# EAGLE library part FH35C-41S-0.3SHW(50)_BAREBONE (library FH35C_connector)
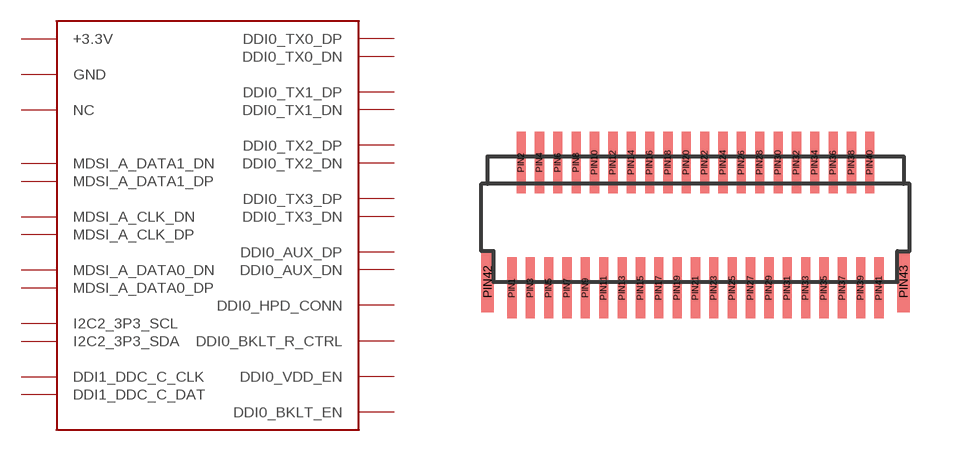
[diagram p0: symbol with the pads of FH35C-41S-0.3SHW(50)_BAREBONE; footprint FH35C-41S-0.3SHW(50)_BAREBONE]

Designator prefix -

## FH35C-41S-0.3SHW(50)_BAREBONE  [FH35C-41S-0.3SHW(50)_BAREBONE]
PIN1  MDSI_A_DATA1_DN
PIN2  MDSI_A_DATA1_DP
PIN3  GND
PIN4  MDSI_A_CLK_DN
PIN5  MDSI_A_CLK_DP
PIN6  GND
PIN7  MDSI_A_DATA0_DN
PIN8  MDSI_A_DATA0_DP
PIN9  GND
PIN10  I2C2_3P3_SCL
PIN11  I2C2_3P3_SDA
PIN12  GND
PIN13  DDI1_DDC_C_CLK
PIN14  DDI1_DDC_C_DAT
PIN15  GND
PIN16  DDI0_TX0_DP
PIN17  DDI0_TX0_DN
PIN18  GND
PIN19  DDI0_TX1_DP
PIN20  DDI0_TX1_DN
PIN21  GND
PIN22  DDI0_TX2_DP
PIN23  DDI0_TX2_DN
PIN24  GND
PIN25  DDI0_TX3_DP
PIN26  DDI0_TX3_DN
PIN27  GND
PIN28  DDI0_AUX_DP
PIN29  DDI0_AUX_DN
PIN30  GND
PIN31  DDI0_HPD_CONN
PIN32  DDI0_BKLT_R_CTRL
PIN33  DDI0_VDD_EN
PIN34  DDI0_BKLT_EN
PIN35  NC
PIN36  NC
PIN37  +3.3V
PIN38  +3.3V
PIN39  +3.3V
PIN40  +3.3V
PIN41  +3.3V
PIN42  GND
PIN43  GND

## Footprint FH35C-41S-0.3SHW(50)_BAREBONE (pad centres in mm)
smd 0.3 x 2: PIN1 -6,-1.6; PIN2 -5.7,2.5; PIN3 -5.4,-1.6; PIN4 -5.1,2.5; PIN5 -4.8,-1.6; PIN6 -4.5,2.5; PIN7 -4.2,-1.6; PIN8 -3.9,2.5; PIN9 -3.6,-1.6; PIN10 -3.3,2.5; PIN11 -3,-1.6; PIN12 -2.7,2.5; PIN13 -2.4,-1.6; PIN14 -2.1,2.5; PIN15 -1.8,-1.6; PIN16 -1.5,2.5; PIN17 -1.2,-1.6; PIN18 -0.9,2.5; PIN19 -0.6,-1.6; PIN20 -0.3,2.5; PIN21 0,-1.6; PIN22 0.3,2.5; PIN23 0.6,-1.6; PIN24 0.9,2.5; PIN25 1.2,-1.6; PIN26 1.5,2.5; PIN27 1.8,-1.6; PIN28 2.1,2.5; PIN29 2.4,-1.6; PIN30 2.7,2.5; PIN31 3,-1.6; PIN32 3.3,2.5; PIN33 3.6,-1.6; PIN34 3.9,2.5; PIN35 4.2,-1.6; PIN36 4.5,2.5; PIN37 4.8,-1.6; PIN38 5.1,2.5; PIN39 5.4,-1.6; PIN40 5.7,2.5; PIN41 6,-1.6
smd 0.4 x 2: PIN42 -6.8,-1.4; PIN43 6.8,-1.4